# EAGLE library part 6N137 (library Eagle CMR)
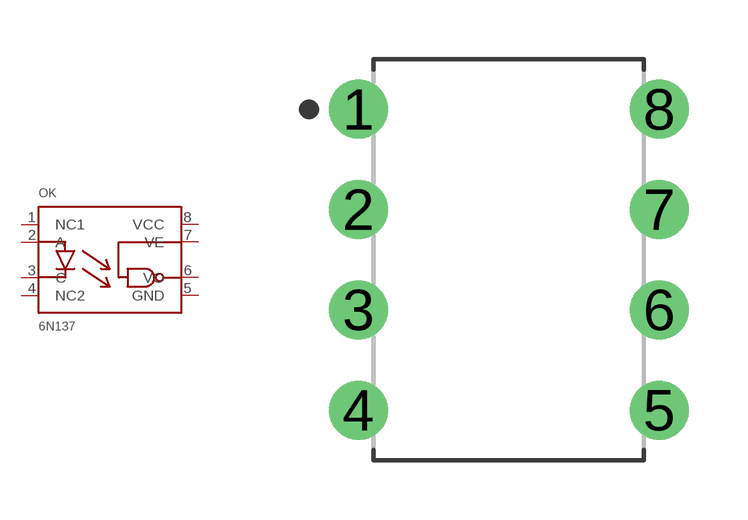
[diagram p22: symbol with the pads of DIP762W60P254L1016H465Q8B; footprint DIP762W60P254L1016H465Q8B]

Designator prefix OK

## 6N137  [DIP762W60P254L1016H465Q8B]
1  NC1
2  A
3  C
4  NC2
5  GND
6  VO
7  VE
8  VCC

## Footprint DIP762W60P254L1016H465Q8B (pad centres in mm)
8-DIP, 2.54 mm (0.10 in) pitch, 7.62 mm (0.30 in) span, 10.16 X 6.78 X 4.65 mm body 8-pin DIP package with 2.54 mm (0.10 in) pitch, 7.62 mm (0.30 in) span with body size 10.16 X 6.78 X 4.65 mm
drill 0.895 pad 1.495: 1 -3.81,3.81; 2 -3.81,1.27; 3 -3.81,-1.27; 4 -3.81,-3.81; 5 3.81,-3.81; 6 3.81,-1.27; 7 3.81,1.27; 8 3.81,3.81